# Altium schematic symbol library national-pwr-mgmt.SchLib: 2 symbols
Pins are listed as number, name and electrical type; pins without a type are passive.

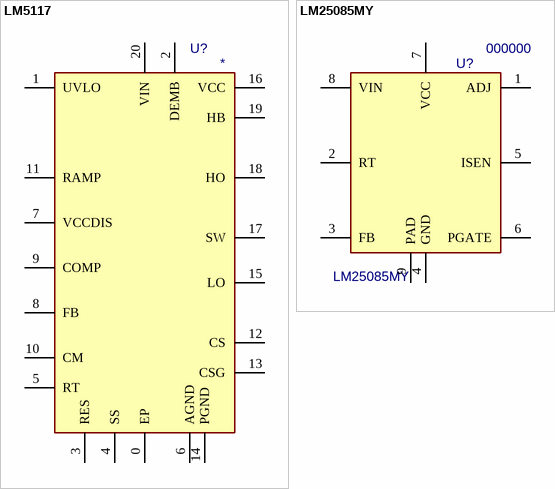
[diagram p0: symbols LM5117 to LM25085MY]

## LM5117
designator U?
Value: LM5117; PN: *; Package: HTSSOP 20; ExtraInfo: *
simulation model LM5117_TRANS ($)
pins: 0 EP, 1 UVLO, 2 DEMB, 3 RES, 4 SS, 5 RT, 6 AGND (power), 7 VCCDIS, 8 FB, 9 COMP, 10 CM, 11 RAMP, 12 CS, 13 CSG, 14 PGND (power), 15 LO, 16 VCC (power), 17 SW, 18 HO, 19 HB, 20 VIN (power)

## LM25085MY
designator U?, comment 000000  value LM25085MY
Buck Switching Regulator; PN: 000000; Package: MSOP-8; ExtraInfo: *
footprint MUY08A (8-MSOP)
pins: 1 ADJ, 2 RT, 3 FB, 4 GND (power), 5 ISEN, 6 PGATE, 7 VCC (power), 8 VIN (power), 9 PAD (power)